# Altium schematic symbol library LowerMachineSchlib.SchLib: 3 symbols
Pins are listed as number, name and electrical type; pins without a type are passive.

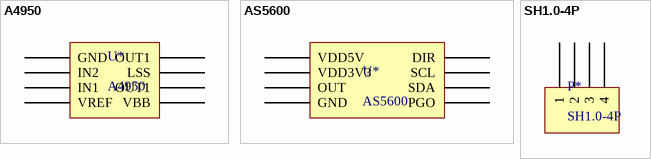
[diagram p0: symbols A4950 to SH1.0-4P]

## A4950
designator U*
footprint A4950 (SOIC, 8-Leads, Body 4.90x3.90mm, Pitch 1.27mm, Thermal Pad 3.30x2.41mm, IPC Medium Density)
pins: 1 GND, 2 IN2, 3 IN1, 4 VREF, 5 VBB, 6 OUT1, 7 LSS, 8 OUT1

## AS5600
designator U*
footprint AS5600 (SOIC, 8-Leads, Body 4.90x3.90mm, Pitch 1.27mm, Thermal Pad 0.00x0.00mm, IPC Medium Density)
pins: 1 VDD5V, 2 VDD3V3, 3 OUT, 4 GND, 5 PGO, 6 SDA, 7 SCL, 8 DIR

## SH1.0-4P
designator P*
footprint SH1.0-4P
pins: 1, 2, 3, 4